# EAGLE library part CH340B (library CHIP_PRO_Dev-Kit-v0.1)
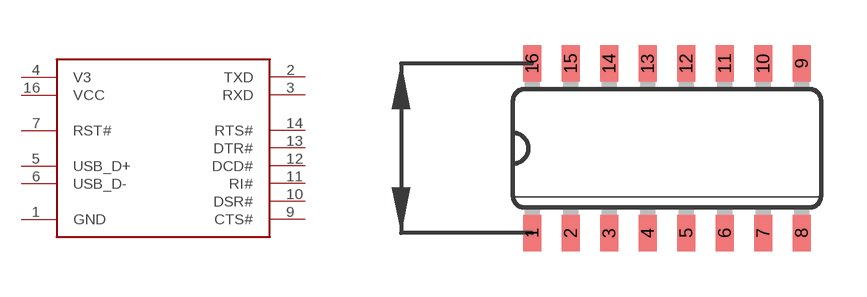
[diagram p10: symbol with the pads of SO16; footprint SO16]

Designator prefix -

## CH340B  [SO16]
1  GND
2  TXD
3  RXD
4  V3
5  USB_D+
6  USB_D-
7  RST#
9  CTS#
10  DSR#
11  RI#
12  DCD#
13  DTR#
14  RTS#
16  VCC

## Footprint SO16 (pad centres in mm)
Small Outline package 150 mil
smd 0.6 x 1.2: 1 -4.445,-2.8; 2 -3.175,-2.8; 3 -1.905,-2.8; 4 -0.635,-2.8; 5 0.635,-2.8; 6 1.905,-2.8; 7 3.175,-2.8; 8 4.445,-2.8; 9 4.445,2.8; 10 3.175,2.8; 11 1.905,2.8; 12 0.635,2.8; 13 -0.635,2.8; 14 -1.905,2.8; 15 -3.175,2.8; 16 -4.445,2.8